# EAGLE library part 105314-X208 (library ORBiT-con-molex-nanofit)
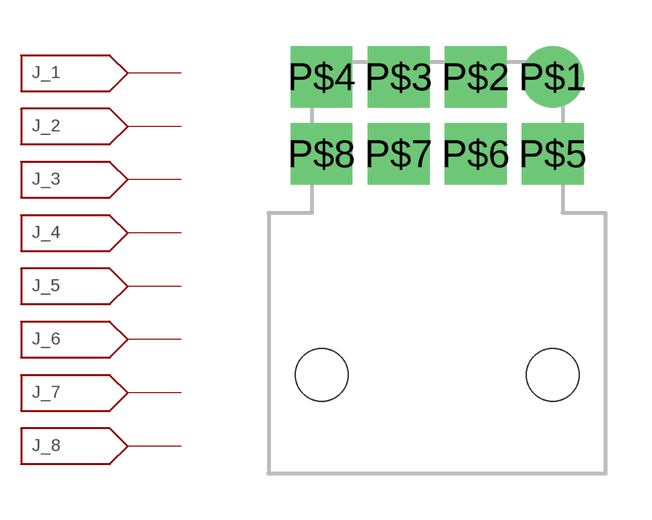
[diagram p0: symbol with the pads of 105314-X208; footprint 105314-X208]

Designator prefix J; gates _1=PIN _2=PIN _3=PIN _4=PIN _5=PIN _6=PIN _7=PIN _8=PIN

## 105314-X208  [105314-X208]
P$1  _1:P$1
P$2  _2:P$1
P$3  _3:P$1
P$4  _4:P$1
P$5  _5:P$1
P$6  _6:P$1
P$7  _7:P$1
P$8  _8:P$1

## Footprint 105314-X208 (pad centres in mm)
drill 1.2 pad 2: P$1 3.75,2.5
drill 1.2 pad 2 square: P$2 1.25,2.5; P$3 -1.25,2.5; P$4 -3.75,2.5; P$5 3.75,0; P$6 1.25,0; P$7 -1.25,0; P$8 -3.75,0
hole 1.7 at -3.75,-7.18
hole 1.7 at 3.75,-7.18